# Altium footprint library Capacitors_NP_SMD_IPC.PcbLib: 12 footprints
Each footprint in its own frame and in the unit in brackets; x right, y up, seen from the top. Pads: shape width x height; smd on the part's side, far side on the other; paste and mask are expansions set on the pad; w line width, h text height; cw(c..) or ccw(c..) is an arc to the next point about the centre after c.
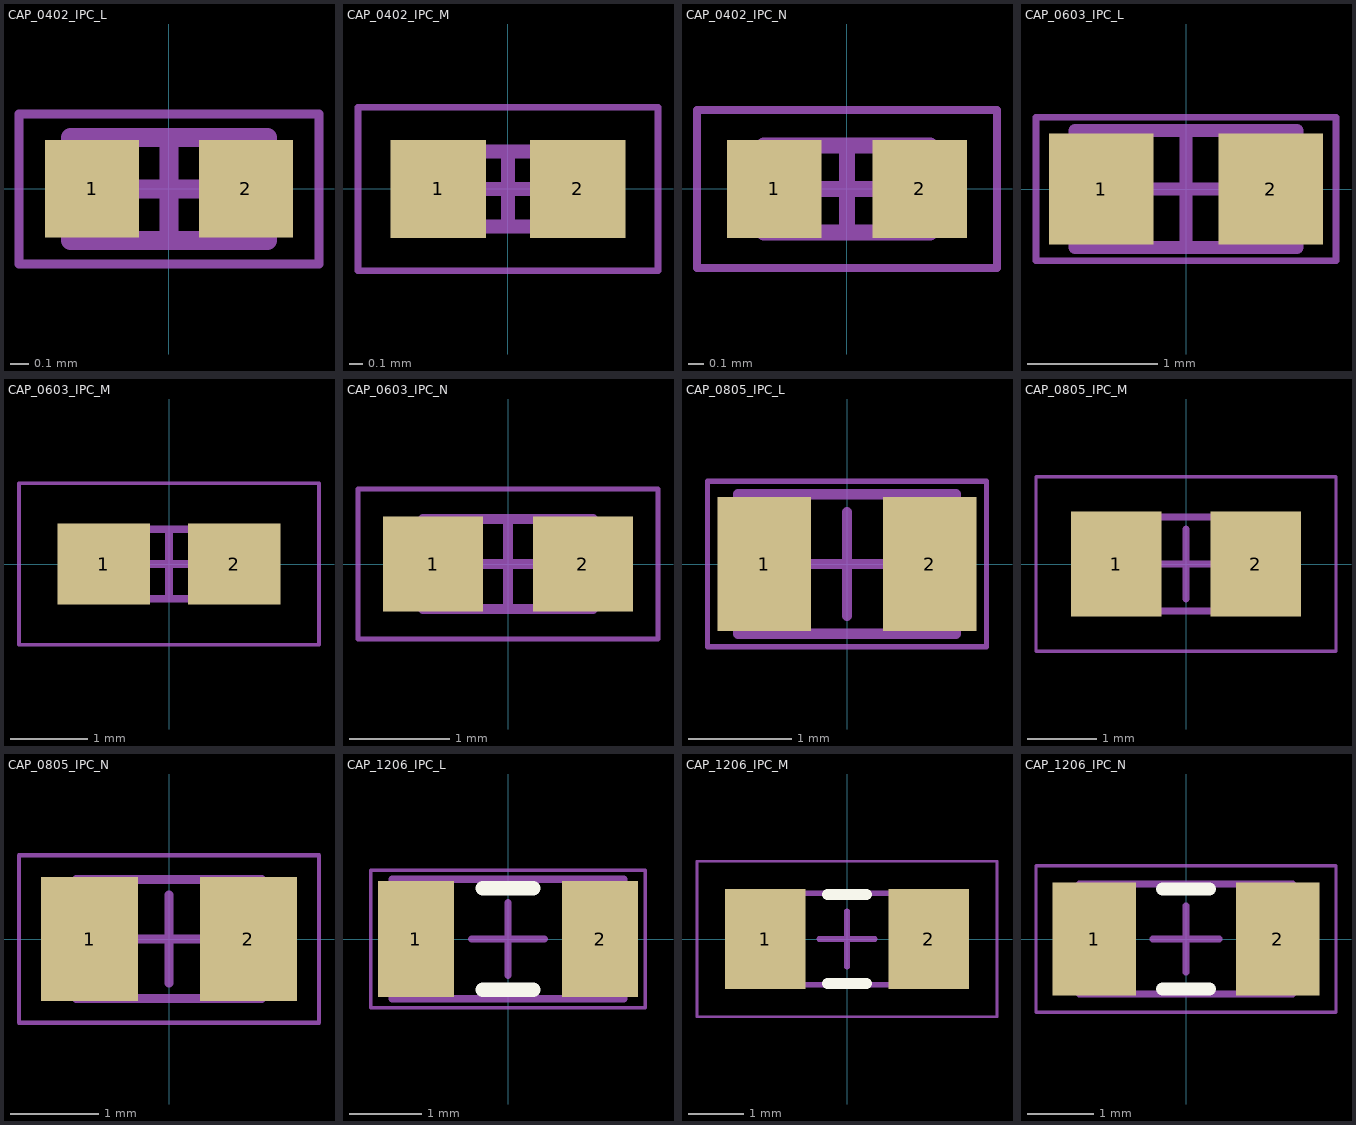
[diagram p0: the footprints below, top view; thin cyan lines are the x and y axes]

## CAP_0402_IPC_L [mm] "Chip capacitor 0402 (1.00x0.50x0.35mm) - IPC Least"
height 0.4
pads (2):
  rect 0.5x0.52 smd: 1(-0.41,0) 2(0.41,0)
Mechanical 13:
  lines w0.1: -0.525,-0.275 -0.525,0.275 0.525,0.275 0.525,-0.275 -0.525,-0.275
Mechanical 15:
  lines w0.05: -0.8,-0.4 -0.8,0.4 0.8,0.4 0.8,-0.4 -0.8,-0.4
  lines w0.1: -0.275,0 0.275,0 ; 0,-0.275 0,0.275
3D body "CAPC1005X04L.step": height 0.4, standoff 0, extent -0.525,-0.275 0.525,0.275

## CAP_0402_IPC_M [mm] "Chip capacitor 0402 (1.00x0.50x0.35mm) - IPC Most"
height 0.4
pads (2):
  rect 0.7x0.72 smd: 1(-0.51,0) 2(0.51,0)
Mechanical 13:
  lines w0.1: -0.525,-0.275 0.525,-0.275 0.525,0.275 -0.525,0.275 -0.525,-0.275
Mechanical 15:
  lines w0.05: -1.1,-0.6 1.1,-0.6 1.1,0.6 -1.1,0.6 -1.1,-0.6
  lines w0.1: -0.275,0 0.275,0 ; 0,-0.275 0,0.275
3D body "CAPC1005X04M.step": height 0.4, standoff 0, extent -0.525,-0.275 0.525,0.275

## CAP_0402_IPC_N [mm] "Chip capacitor 0402 (1.00x0.50x0.35mm) - IPC Nominal"
height 0.4
pads (2):
  rect 0.6x0.62 smd: 1(-0.46,0) 2(0.46,0)
Mechanical 13:
  lines w0.1: -0.525,-0.275 0.525,-0.275 0.525,0.275 -0.525,0.275 -0.525,-0.275
Mechanical 15:
  lines w0.05: -0.95,-0.5 0.95,-0.5 0.95,0.5 -0.95,0.5 -0.95,-0.5
  lines w0.1: -0.275,0 0.275,0 ; 0,-0.275 0,0.275
3D body "CAPC1005X04N.step": height 0.4, standoff 0, extent -0.525,-0.275 0.525,0.275

## CAP_0603_IPC_L [mm] "Chip capacitor 0603 (1.60x0.80x0.45mm) - IPC Least"
height 0.55
pads (2):
  rect 0.8x0.85 smd: 1(-0.65,0) 2(0.65,0)
Mechanical 13:
  lines w0.1: -0.85,-0.45 0.85,-0.45 0.85,0.45 -0.85,0.45 -0.85,-0.45
Mechanical 15:
  lines w0.05: -1.15,-0.55 1.15,-0.55 1.15,0.55 -1.15,0.55 -1.15,-0.55
  lines w0.1: -0.45,0 0.45,0 ; 0,-0.45 0,0.45
3D body "CAPC1608X06L.step": height 0.55, standoff 0, extent -0.85,-0.45 0.85,0.45

## CAP_0603_IPC_M [mm] "Chip capacitor 0603 (1.60x0.80x0.45mm) - IPC Most"
height 0.55
pads (2):
  rect 1.2x1.05 smd: 1(-0.85,0) 2(0.85,0)
Mechanical 13:
  lines w0.1: -0.85,-0.45 0.85,-0.45 0.85,0.45 -0.85,0.45 -0.85,-0.45
Mechanical 15:
  lines w0.05: -1.95,-1.05 1.95,-1.05 1.95,1.05 -1.95,1.05 -1.95,-1.05
  lines w0.1: -0.45,0 0.45,0 ; 0,-0.45 0,0.45
3D body "CAPC1608X06M.step": height 0.55, standoff 0, extent -0.85,-0.45 0.85,0.45

## CAP_0603_IPC_N [mm] "Chip capacitor 0603 (1.60x0.80x0.45mm) - IPC Nominal"
height 0.55
pads (2):
  rect 1x0.95 smd: 1(-0.75,0) 2(0.75,0)
Mechanical 13:
  lines w0.1: -0.85,-0.45 0.85,-0.45 0.85,0.45 -0.85,0.45 -0.85,-0.45
Mechanical 15:
  lines w0.05: -1.5,-0.75 1.5,-0.75 1.5,0.75 -1.5,0.75 -1.5,-0.75
  lines w0.1: -0.45,0 0.45,0 ; 0,-0.45 0,0.45
3D body "CAPC1608X06N.step": height 0.55, standoff 0, extent -0.85,-0.45 0.85,0.45

## CAP_0805_IPC_L [mm] "Chip capacitor 0805 (2.00x1.25x0.50mm) - IPC Least"
height 0.6
pads (2):
  rect 0.9x1.3 smd: 1(-0.8,0) 2(0.8,0)
Mechanical 13:
  lines w0.1: -1.05,-0.675 1.05,-0.675 1.05,0.675 -1.05,0.675 -1.05,-0.675
Mechanical 15:
  lines w0.05: -1.35,-0.8 1.35,-0.8 1.35,0.8 -1.35,0.8 -1.35,-0.8
  lines w0.1: -0.5,0 0.5,0 ; 0,-0.5 0,0.5
3D body "CAPC2012X06L.step": height 0.6, standoff 0, extent -1.05,-0.675 1.05,0.675

## CAP_0805_IPC_M [mm] "Chip capacitor 0805 (2.00x1.25x0.50mm) - IPC Most"
height 0.6
pads (2):
  rect 1.3x1.5 smd: 1(-1,0) 2(1,0)
Mechanical 13:
  lines w0.1: -1.05,-0.675 1.05,-0.675 1.05,0.675 -1.05,0.675 -1.05,-0.675
Mechanical 15:
  lines w0.05: -2.15,-1.25 2.15,-1.25 2.15,1.25 -2.15,1.25 -2.15,-1.25
  lines w0.1: -0.5,0 0.5,0 ; 0,-0.5 0,0.5
3D body "CAPC2012X06M.step": height 0.6, standoff 0, extent -1.05,-0.675 1.05,0.675

## CAP_0805_IPC_N [mm] "Chip capacitor 0805 (2.00x1.25x0.50mm) - IPC Nominal"
height 0.6
pads (2):
  rect 1.1x1.4 smd: 1(-0.9,0) 2(0.9,0)
Mechanical 13:
  lines w0.1: -1.05,-0.675 1.05,-0.675 1.05,0.675 -1.05,0.675 -1.05,-0.675
Mechanical 15:
  lines w0.05: -1.7,-0.95 1.7,-0.95 1.7,0.95 -1.7,0.95 -1.7,-0.95
  lines w0.1: -0.5,0 0.5,0 ; 0,-0.5 0,0.5
3D body "CAPC2012X06N.step": height 0.6, standoff 0, extent -1.05,-0.675 1.05,0.675

## CAP_1206_IPC_L [mm] "Chip capacitor 1206 (3.10x1.55x0.55mm) - IPC Least"
height 0.65
pads (2):
  rect 1.05x1.6 smd: 1(-1.275,0) 2(1.275,0)
Top Overlay:
  lines w0.2: -0.35,-0.7 0.35,-0.7 ; -0.35,0.7 0.35,0.7
Mechanical 13:
  lines w0.1: -1.6,-0.825 1.6,-0.825 1.6,0.825 -1.6,0.825 -1.6,-0.825
Mechanical 15:
  lines w0.05: -1.9,-0.95 1.9,-0.95 1.9,0.95 -1.9,0.95 -1.9,-0.95
  lines w0.1: -0.5,0 0.5,0 ; 0,-0.5 0,0.5
3D body "CAPC3115X06L.step": height 0.65, standoff 0, extent -1.6,-0.825 1.6,0.825

## CAP_1206_IPC_M [mm] "Chip capacitor 1206 (3.10x1.55x0.55mm) - IPC Most"
height 0.65
pads (2):
  rect 1.45x1.8 smd: 1(-1.475,0) 2(1.475,0)
Top Overlay:
  lines w0.2: -0.35,-0.8 0.35,-0.8 ; -0.35,0.8 0.35,0.8
Mechanical 13:
  lines w0.1: -1.6,-0.825 1.6,-0.825 1.6,0.825 -1.6,0.825 -1.6,-0.825
Mechanical 15:
  lines w0.05: -2.7,-1.4 2.7,-1.4 2.7,1.4 -2.7,1.4 -2.7,-1.4
  lines w0.1: -0.5,0 0.5,0 ; 0,-0.5 0,0.5
3D body "CAPC3115X06M.step": height 0.65, standoff 0, extent -1.6,-0.825 1.6,0.825

## CAP_1206_IPC_N [mm] "Chip capacitor 1206 (3.10x1.55x0.55mm) - IPC Nominal"
height 0.65
pads (2):
  rect 1.25x1.7 smd: 1(-1.375,0) 2(1.375,0)
Top Overlay:
  lines w0.2: -0.35,-0.75 0.35,-0.75 ; -0.35,0.75 0.35,0.75
Mechanical 13:
  lines w0.1: -1.6,-0.825 1.6,-0.825 1.6,0.825 -1.6,0.825 -1.6,-0.825
Mechanical 15:
  lines w0.05: -2.25,-1.1 2.25,-1.1 2.25,1.1 -2.25,1.1 -2.25,-1.1
  lines w0.1: -0.5,0 0.5,0 ; 0,-0.5 0,0.5
3D body "CAPC3115X06N.step": height 0.65, standoff 0, extent -1.6,-0.825 1.6,0.825